# EAGLE library part AXA04AXX-L (library powerboard)
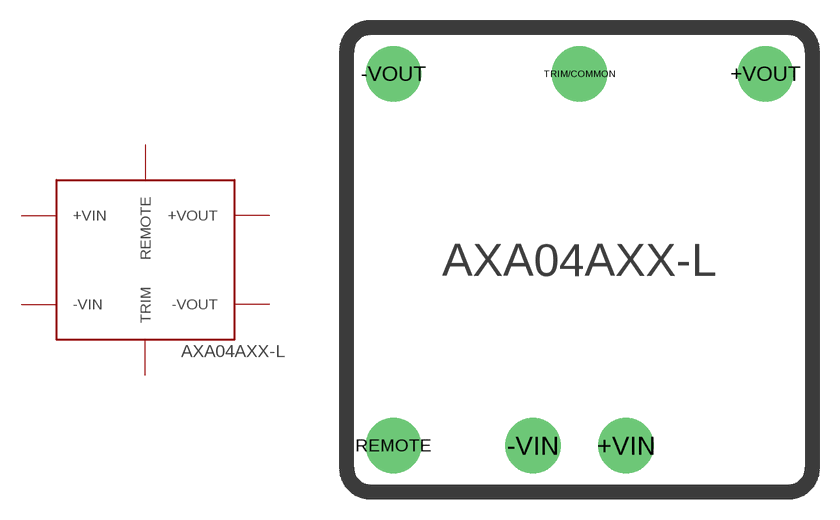
[diagram p0: symbol with the pads of AXA04AXX-L; footprint AXA04AXX-L]

Designator prefix -

## AXA04AXX-L  [AXA04AXX-L]
+VIN  +VIN
+VOUT  +VOUT
-VIN  -VIN
-VOUT  -VOUT
REMOTE  REMOTE
TRIM/COMMON  TRIM

## Footprint AXA04AXX-L (pad centres in mm)
drill 1.2 pad 3.048: +VIN 2.54,-10.16; +VOUT 10.16,10.16; -VIN -2.54,-10.16; -VOUT -10.16,10.16; REMOTE -10.16,-10.16; TRIM/COMMON 0,10.16